# EAGLE library part LT1635 (library LT1635)
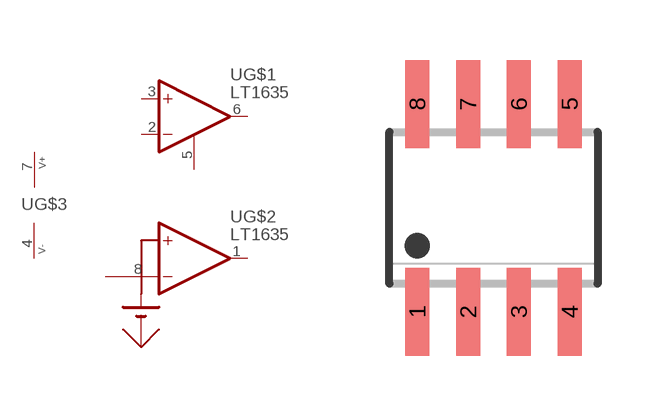
[diagram p0: symbol with the pads of SO08; footprint SO08]

Designator prefix -; gates G$1=OPAMP_NV G$2=OPAMP_REF G$3=PWRN_V+-

## LT1635  [SO08]
1  G$2:REF_OUT  out
2  G$1:-IN  in
3  G$1:+IN  in
4  G$3:V-  pwr
5  G$1:BAL  out
6  G$1:OUT  out
7  G$3:V+  pwr
8  G$2:REF_FB  in

## Footprint SO08 (pad centres in mm)
SMALL OUTLINE INTEGRATED CIRCUIT body 3.9 mm/JEDEC MS-012AA
smd 0.6 x 2.2: 1 -1.905,-2.6; 2 -0.635,-2.6; 3 0.635,-2.6; 4 1.905,-2.6; 5 1.905,2.6; 6 0.635,2.6; 7 -0.635,2.6; 8 -1.905,2.6